# EAGLE library part UCC27714DR (library SamacSys_Parts)
Gate Drivers High-Speed, 4-A, 600-V High-Side Low-Side Gate Driver 14-SOIC -40 to 125 Source: Datasheet <http://www.ti.com/lit/ds/symlink/ucc27714.pdf>
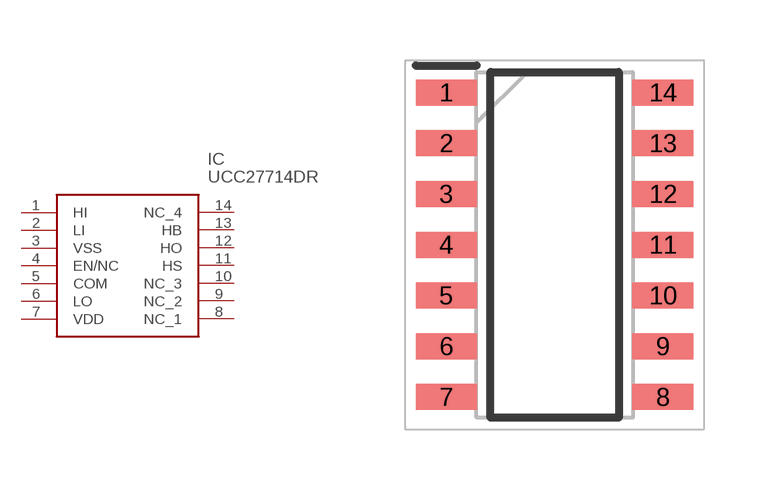
[diagram p10: symbol with the pads of SOIC127P600X175-14N; footprint SOIC127P600X175-14N]

Designator prefix IC

## UCC27714DR (DESCRIPTION: Gate Drivers High-Speed, 4-A, 600-V High-Side Low-Side Gate Driver 14-SOIC -40 to 125; HEIGHT: 1.75mm; MANUFACTURER_NAME: Texas Instruments; MANUFACTURER_PART_NUMBER: UCC27714DR; MOUSER_PART_NUMBER: 595-UCC27714DR; MOUSER_PRICE-STOCK: https://www.mouser.com/Search/Refine.aspx?Keyword=595-UCC27714DR)  [SOIC127P600X175-14N]
1  HI
2  LI
3  VSS  pwr
4  EN/NC
5  COM
6  LO
7  VDD  pwr
8  NC_1
9  NC_2
10  NC_3
11  HS
12  HO
13  HB
14  NC_4

## Footprint SOIC127P600X175-14N (pad centres in mm)
D(R-PDSO-G14)
smd 1.525 x 0.65: 1 -2.712,3.81; 2 -2.712,2.54; 3 -2.712,1.27; 4 -2.712,0; 5 -2.712,-1.27; 6 -2.712,-2.54; 7 -2.712,-3.81; 8 2.712,-3.81; 9 2.712,-2.54; 10 2.712,-1.27; 11 2.712,0; 12 2.712,1.27; 13 2.712,2.54; 14 2.712,3.81